# Altium schematic symbol library Common.SchLib: 213 symbols (part 2 of 2)

## STR712F TQFP64
designator *
pins: 1 P0.10/U1.RX/U1.TX/SCDATA, 2 P0.11/U1.TX/BOOT.1, 3 P0.12/SCCLK, 4 VSS, 5 P0.13/U2.RX/T2.OCMPA, 6 P0.14/U2.TX/T2.ICAPA, 7 BOOTEN, 8 VSS, 9 V33, 10 JTDI, 11 JTMS, 12 JTCK, 13 JTDO, 14 nJTRST, 15 NU, 16 TEST, 17 V33IO-PLL, 18 VSSIO-PLL, 19 CK, 20 P0.15/WAKEUP, 21 RTCXTI, 22 RTCXTO, 23 nSTDBY, 24 nRSTIN, 25 VSSBKP, 26 V18BKP, 27 V18, 28 VSS18, 29 AVDD, 30 AVSS, 31 P1.0/T3.OCMPB/AIN.0, 32 P1.1/T3.ICAPA/AIN.1, 33 P1.2/T3.OCMPA/AIN.2, 34 P1.3/T3.ICAPB/AIN.3, 35 P1.4/T1.ICAPA, 36 P1.5/T1.ICAPB, 37 P1.6/T1.OCMPB, 38 V33IO-PLL, 39 VSSIO-PLL, 40 P1.7/T1.OCMPA, 41 P1.8, 42 P1.11/CANRX, 43 P1.12/CANTX, 44 VSS, 45 P1.9, 46 P1.10, 47 P1.13/HCLK/I0.SCL, 48 P1.14/HRXD/I0.SDA, 49 P1.15/HTXD, 50 VSS, 51 V33, 52 P0.0/S0.MISO/U3.TX, 53 P0.1/S0.MOSI/U3.RX, 54 P0.2/S0.SCLK/I1.SCL, 55 P0.3/S0.SSN/I1.SDA, 56 P0.4/S1.MISO, 57 VSS18, 58 V18, 59 VSS, 60 P0.5/S1.MOSI, 61 P0.6/S1.SCLK, 62 P0.7/S1.SSN, 63 P0.8/U0.RX/U0.TX, 64 P0.9/U0.TX/BOOT.0
text: JTAG; SYSTEM; RTC; CAN; I2C0; SPI0; SPI1; UART0; OLED DISPLAY; UART1; UART2; DEBUG; ADC; TIMER1

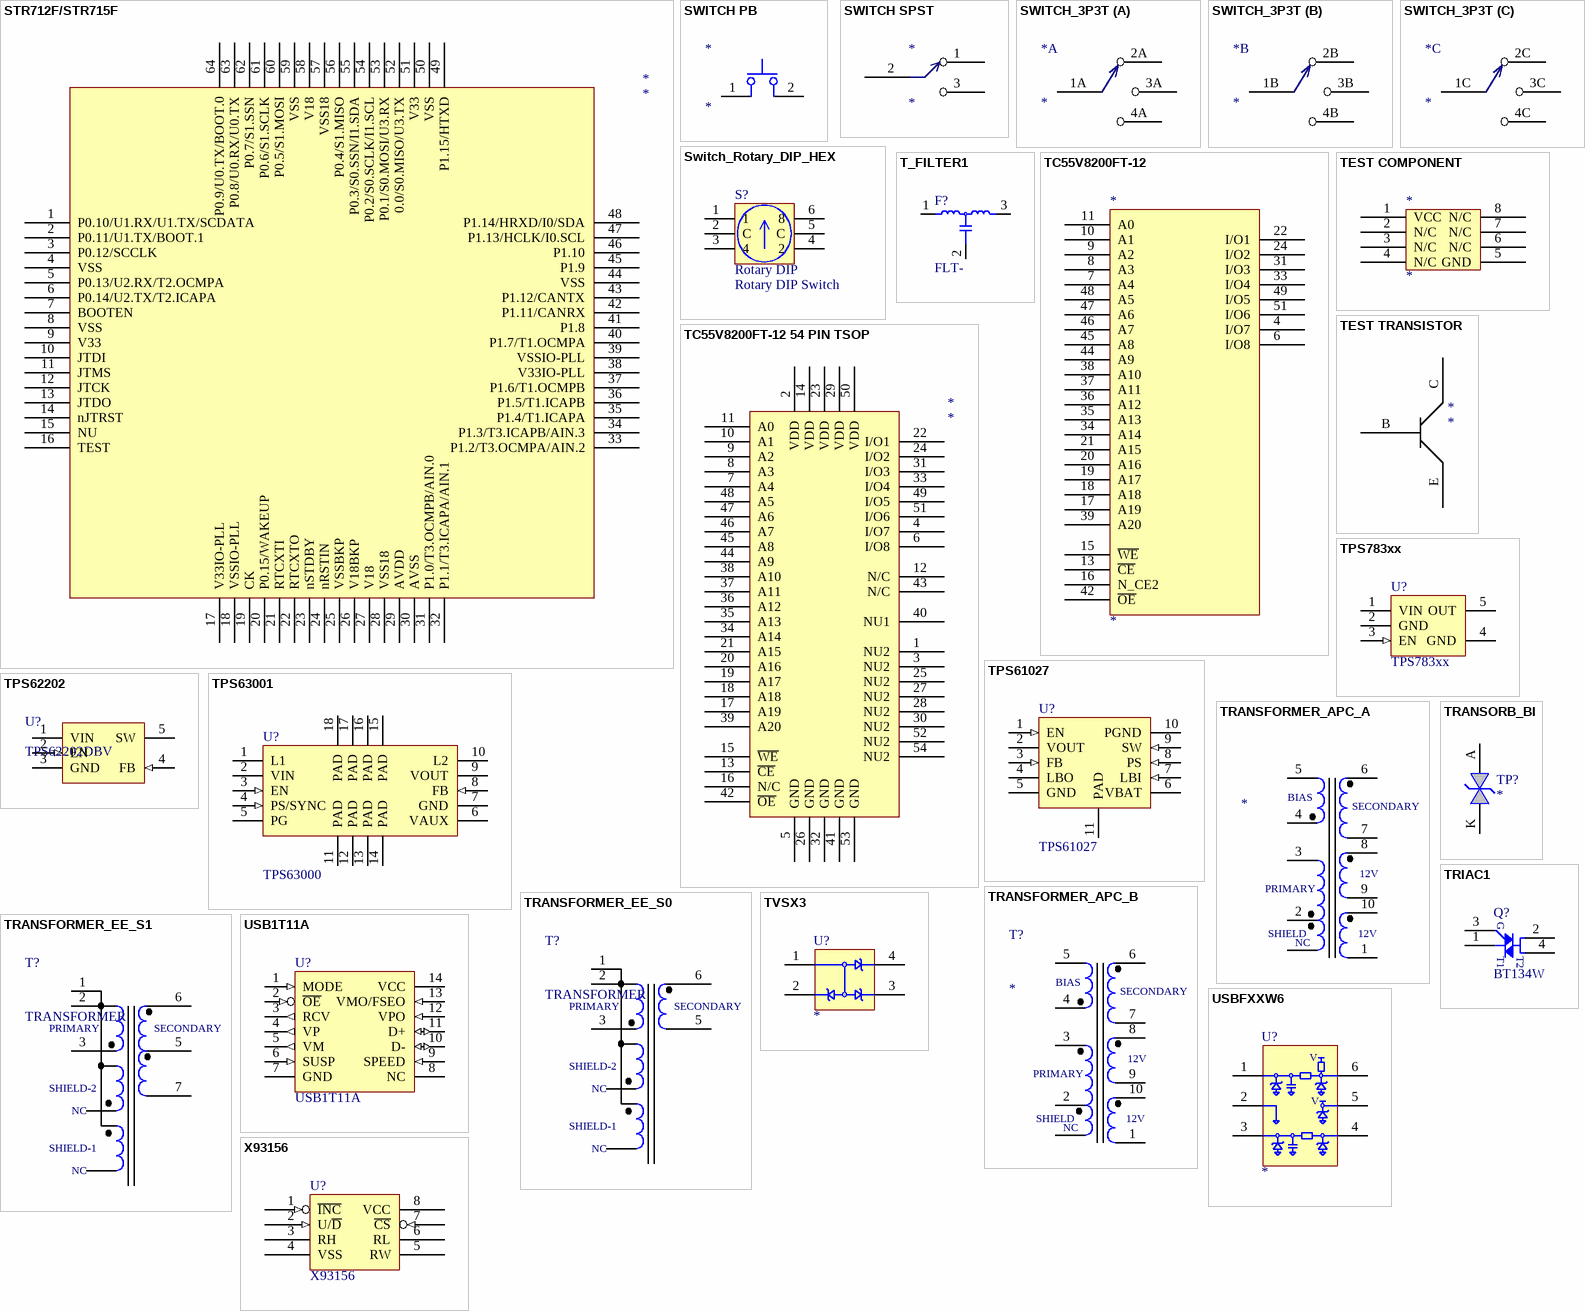
[diagram p8: symbols STR712F/STR715F to X93156]

## STR712F/STR715F
designator *
pins: 1 P0.10/U1.RX/U1.TX/SCDATA, 2 P0.11/U1.TX/BOOT.1, 3 P0.12/SCCLK, 4 VSS, 5 P0.13/U2.RX/T2.OCMPA, 6 P0.14/U2.TX/T2.ICAPA, 7 BOOTEN, 8 VSS, 9 V33, 10 JTDI, 11 JTMS, 12 JTCK, 13 JTDO, 14 nJTRST, 15 NU, 16 TEST, 17 V33IO-PLL, 18 VSSIO-PLL, 19 CK, 20 P0.15/WAKEUP, 21 RTCXTI, 22 RTCXTO, 23 nSTDBY, 24 nRSTIN, 25 VSSBKP, 26 V18BKP, 27 V18, 28 VSS18, 29 AVDD, 30 AVSS, 31 P1.0/T3.OCMPB/AIN.0, 32 P1.1/T3.ICAPA/AIN.1, 33 P1.2/T3.OCMPA/AIN.2, 34 P1.3/T3.ICAPB/AIN.3, 35 P1.4/T1.ICAPA, 36 P1.5/T1.ICAPB, 37 P1.6/T1.OCMPB, 38 V33IO-PLL, 39 VSSIO-PLL, 40 P1.7/T1.OCMPA, 41 P1.8, 42 P1.11/CANRX, 43 P1.12/CANTX, 44 VSS, 45 P1.9, 46 P1.10, 47 P1.13/HCLK/I0.SCL, 48 P1.14/HRXD/I0/SDA, 49 P1.15/HTXD, 50 VSS, 51 V33, 52 0.0/S0.MISO/U3.TX, 53 P0.1/S0.MOSI/U3.RX, 54 P0.2/S0.SCLK/I1.SCL, 55 P0.3/S0.SSN/I1.SDA, 56 P0.4/S1.MISO, 57 VSS18, 58 V18, 59 VSS, 60 P0.5/S1.MOSI, 61 P0.6/S1.SCLK, 62 P0.7/S1.SSN, 63 P0.8/U0.RX/U0.TX, 64 P0.9/U0.TX/BOOT.0

## SWITCH PB
designator *
pins: 1, 2

## SWITCH SPST
designator *
pins: 1, 2, 3

## SWITCH_3P3T
designator *
part A pins: 1A, 2A, 3A, 4A
part B pins: 1B, 2B, 3B, 4B
part C pins: 1C, 2C, 3C, 4C

## Switch_Rotary_DIP_HEX
designator S?, comment Rotary DIP  value Rotary DIP Switch
PART NO: NEW
pins: 1, 2 C, 3 4, 4 2, 5 C, 6 8

## T_FILTER1
designator F?, comment FLT-
PARTNO: FLT-; VALUE: FLT-
footprint FILTER1 (Footprint not found)
pins: 1, 2, 3

## TC55V8200FT-12
designator *
pins: 4 I/O7, 6 I/O8, 7 A4, 8 A3, 9 A2, 10 A1, 11 A0, 13 ~{CE}, 15 ~{WE}, 16 N_CE2, 17 A19, 18 A18, 19 A17, 20 A16, 21 A15, 22 I/O1, 24 I/O2, 31 I/O3, 33 I/O4, 34 A14, 35 A13, 36 A12, 37 A11, 38 A10, 39 A20, 42 ~{OE}, 44 A9, 45 A8, 46 A7, 47 A6, 48 A5, 49 I/O5, 51 I/O6

## TC55V8200FT-12 54 PIN TSOP
designator *
pins: 1 NU2, 2 VDD, 3 NU2, 4 I/O7, 5 GND, 6 I/O8, 7 A4, 8 A3, 9 A2, 10 A1, 11 A0, 12 N/C, 13 ~{CE}, 14 VDD, 15 ~{WE}, 16 N/C, 17 A19, 18 A18, 19 A17, 20 A16, 21 A15, 22 I/O1, 23 VDD, 24 I/O2, 25 NU2, 26 GND, 27 NU2, 28 NU2, 29 VDD, 30 NU2, 31 I/O3, 32 GND, 33 I/O4, 34 A14, 35 A13, 36 A12, 37 A11, 38 A10, 39 A20, 40 NU1, 41 GND, 42 ~{OE}, 43 N/C, 44 A9, 45 A8, 46 A7, 47 A6, 48 A5, 49 I/O5, 50 VDD, 51 I/O6, 52 NU2, 53 GND, 54 NU2

## TEST COMPONENT
designator *
pins: 1 VCC, 2 N/C, 3 N/C, 4 N/C, 5 GND, 6 N/C, 7 N/C, 8 N/C

## TEST TRANSISTOR
designator *
pins: B BASE, C COLLECTOR, E EMITTER

## TPS783xx
designator U?
VALUE: TPS783xx
footprint SOT25_030205 (SMT)
pins: 1 VIN (power), 2 GND (power), 3 EN (in), 4 GND (power), 5 OUT (power)

## TPS61027
designator U?
PARTNO: TPS61027; VALUE: TPS61027
pins: 1 EN (in) "Enable", 2 VOUT (power) "VOUTPUT", 3 FB (in) "Feedback", 4 LBO (oc) "Low Battery", 5 GND (power) "SIG_GND", 6 VBAT (power) "SUPPLY IN", 7 LBI (in) "LOW BATTERY COMPARATOR IN", 8 PS (in) "POWER SAVE MODE", 9 SW (in) "BOOST IN", 10 PGND (power) "POWER GND", 11 PAD (power) "POWER GND"

## TPS62202
designator U?, comment TPS62202DBV
PARTNO: TPS62202DBVT; MAN: TI; DK: 296-12718-1-ND; VALUE: TPS62202DBV
footprint SOT25_030205 (SMT)
pins: 1 VIN (power), 2 EN (in), 3 GND (power), 4 FB (in), 5 SW (oc)

## TPS63001
designator U?, comment TPS63000
PARTNO: TPS63001; VALUE: TPS63000
footprint DFN10_091607 (SMT)
pins: 1 L1 "Inductor", 2 VIN (power) "Inductor", 3 EN (in) "Ground", 4 PS/SYNC (in) "Inductor", 5 PG (oc) "Power Good", 6 VAUX (power) "Filter", 7 GND (power) "Logic Ground", 8 FB (in) "Feed Back", 9 VOUT (power) "Output", 10 L2 "Inductor", 11 PAD (power) "PGND", 12 PAD (power) "PGND", 13 PAD (power) "PGND", 14 PAD (power) "PGND", 15 PAD (power) "PGND", 16 PAD (power) "PGND", 17 PAD (power) "PGND", 18 PAD (power) "PGND"

## TRANSFORMER_APC_A
designator ?
pins: 1, 2, 3 (power), 4, 5 (power), 6, 7, 8 (power), 9 (power) "Heat Sink", 10
text: BIAS; SECONDARY; 12V; PRIMARY; SHIELD; NC

## TRANSFORMER_APC_B
designator T?
VALUE: Custom; MAN: ????; PARTNUM: Custom; DK: N/A
footprint TRANSFORMER CTX EEL19 063008 (TH)
pins: 1, 2, 3 (power), 4, 5 (power), 6, 7, 8 (power), 9 (power) "Heat Sink", 10
text: BIAS; SECONDARY; 12V; PRIMARY; SHIELD; NC

## TRANSFORMER_EE_S0
designator T?, comment TRANSFORMER
PARTNO: ????; DK: ????; MAN: ????; VALUE: TRANSFORMER
footprint XFORMER_EE16H8_051409 (TH)
pins: 1 (power), 2, 3 (power), 5, 6
text: PRIMARY; SECONDARY; SHIELD-2; NC; SHIELD-1

## TRANSFORMER_EE_S1
designator T?, comment TRANSFORMER
PARTNO: ????; DK: ????; MAN: ????; VALUE: TRANSFORMER
footprint XFORMER_EE13H8_051409 (TH)
pins: 1 (power), 2, 3 (power), 5, 6, 7
text: PRIMARY; SECONDARY; SHIELD-2; NC; SHIELD-1

## TRANSORB_BI
designator TP?
pins: A, K

## TRIAC1
designator Q?, comment BT134W
VALUE: BT134W; PARTNO: BT134W
footprint SOT223_SPECIAL (Footprint not found)
pins: 1, 2, 3, 4
text: G; T1; T2

## TVSX3
designator U?
PARTNO: CHP-USBUF01W6; VALUE: USBUF01W6
footprint SOT143_111306 (SMT)
pins: 1, 2 (power), 3, 4

## USB1T11A
designator U?
PARTNO: CHP-USB1T11A; VALUE: USB1T11A
footprint Model Name (Model Description)
pins: 1 MODE (in), 2 ~{OE} (in), 3 RCV (out), 4 VP (out), 5 VM (out), 6 SUSP (in), 7 GND (power), 8 NC, 9 SPEED (in), 10 D- (io), 11 D+ (io), 12 VPO (in), 13 VMO/FSEO (in), 14 VCC (power)

## USBFXXW6
designator U?
PARTNO: CHP-USBUF01W6; VALUE: USBUF01W6
footprint SOT23-6_030205 (SMT)
pins: 1, 2 (power), 3, 4, 5 (power), 6
text: V

## X93156
designator U?
Digital Pot; PARTNO: X93156WM8I; VALUE: X93156
footprint MS8_070505 (SMT)
pins: 1 ~{INC} (in), 2 U/~{D} (in), 3 RH, 4 VSS (power), 5 RW, 6 RL, 7 ~{CS} (in), 8 VCC (power)

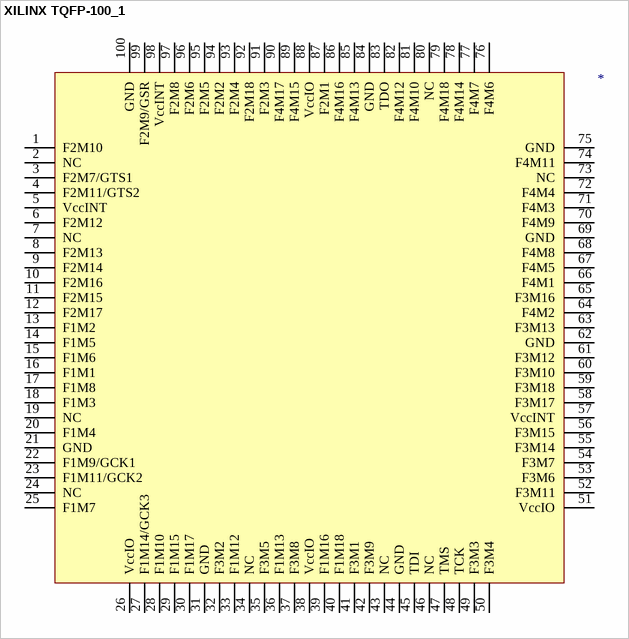
[diagram p9: symbol XILINX TQFP-100_1]

## XILINX TQFP-100_1
designator ?
pins: 1 F2M10, 2 NC, 3 F2M7/GTS1, 4 F2M11/GTS2, 5 VccINT, 6 F2M12, 7 NC, 8 F2M13, 9 F2M14, 10 F2M16, 11 F2M15, 12 F2M17, 13 F1M2, 14 F1M5, 15 F1M6, 16 F1M1, 17 F1M8, 18 F1M3, 19 NC, 20 F1M4, 21 GND, 22 F1M9/GCK1, 23 F1M11/GCK2, 24 NC, 25 F1M7, 26 VccIO, 27 F1M14/GCK3, 28 F1M10, 29 F1M15, 30 F1M17, 31 GND, 32 F3M2, 33 F1M12, 34 NC, 35 F3M5, 36 F1M13, 37 F3M8, 38 VccIO, 39 F1M16, 40 F1M18, 41 F3M1, 42 F3M9, 43 NC, 44 GND, 45 TDI, 46 NC, 47 TMS, 48 TCK, 49 F3M3, 50 F3M4, 51 VccIO, 52 F3M11, 53 F3M6, 54 F3M7, 55 F3M14, 56 F3M15, 57 VccINT, 58 F3M17, 59 F3M18, 60 F3M10, 61 F3M12, 62 GND, 63 F3M13, 64 F4M2, 65 F3M16, 66 F4M1, 67 F4M5, 68 F4M8, 69 GND, 70 F4M9, 71 F4M3, 72 F4M4, 73 NC, 74 F4M11, 75 GND, 76 F4M6, 77 F4M7, 78 F4M14, 79 F4M18, 80 NC, 81 F4M10, 82 F4M12, 83 TDO, 84 GND, 85 F4M13, 86 F4M16, 87 F2M1, 88 VccIO, 89 F4M15, 90 F4M17, 91 F2M3, 92 F2M18, 93 F2M4, 94 F2M2, 95 F2M5, 96 F2M6, 97 F2M8, 98 VccINT, 99 F2M9/GSR, 100 GND